# Altium footprint library 2N3904TAR.PcbLib: 6 footprints
Each footprint in its own frame and in the unit in brackets; x right, y up, seen from the top. Pads: shape width x height; smd on the part's side, far side on the other; paste and mask are expansions set on the pad; w line width, h text height; cw(c..) or ccw(c..) is an arc to the next point about the centre after c.
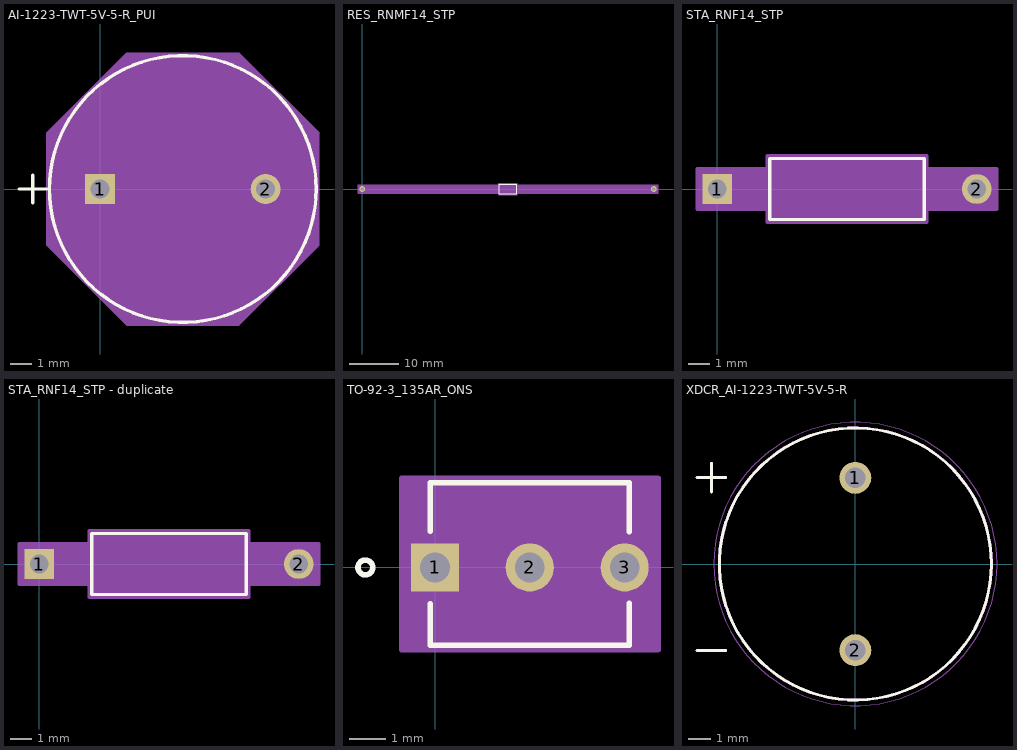
[diagram p0: the footprints below, top view; thin cyan lines are the x and y axes]

## AI-1223-TWT-5V-5-R_PUI [mil]
pads (2):
  rect 54x54 / inner round 60 / far side rect 54x54 hole 34 paste-99999 mask+0: 1(0,0)
  round 54 / inner round 60 / far side round 54 hole 34 paste-99999 mask+0: 2(299.21,0)
Top Overlay:
  circle w6: c149.61,0 r241
  lines w6: -146.39,0 -96.39,0 ; -121.39,-25 -121.39,25
Mechanical 13:
  circle w0: c149.61,0 r236
  lines w1: -146.39,0 -96.39,0 ; -121.39,-25 -121.39,25
Mechanical 15:
  region: -96.39,101.29 48.31,246 250.9,246 395.61,101.29 395.61,-101.29 250.9,-246 48.31,-246 -96.39,-101.29
  lines w1: -96.39,-101.29 48.31,-246 250.9,-246 395.61,-101.29 395.61,101.29 250.9,246 48.31,246 -96.39,101.29 -96.39,-101.29
3D body "AI-1223-TWT-5V-5-R_PUI.step": height 374.61, standoff -172.01, extent -86.38,-235.88 387,235.88

## RES_RNMF14_STP [mil]
pads (2):
  round 47 / inner round 60 / far side round 47 hole 27 paste-99999 mask+0: 1(0,0) 2(2334,0)
Top Overlay:
  lines w6: 1097,-40 1237,-40 1237,40 1097,40 1097,-40
Mechanical 13:
  lines w1: 0,0 1102,0 ; 1232,0 2334,0 ; 1102,-35 1232,-35 1232,35 1102,35 1102,-35
Mechanical 15:
  region: 1092,-33.5 -33.5,-33.5 -33.5,33.5 1092,33.5 1092,45 1242,45 1242,33.5 2367.5,33.5 2367.5,-33.5 1242,-33.5 1242,-45 1092,-45
  region: 1232,-35 1102,-35 1102,35 1232,35
  lines w6: -33.5,-33.5 -33.5,33.5 1092,33.5 1092,45 1242,45 1242,33.5 2367.5,33.5 2367.5,-33.5 1242,-33.5 1242,-45 1092,-45 1092,-33.5 -33.5,-33.5
3D body "RES_RNMF14_STP.step": height 70, standoff -100, extent -8.5,-34.74 2342.52,34.74

## STA_RNF14_STP [mil]
pads (2):
  rect 55x55 / inner round 60 / far side rect 55x55 hole 35 paste-99999 mask+0: 1(0,0)
  round 55 / inner round 60 / far side round 55 hole 35 paste-99999 mask+0: 2(480,0)
Top Overlay:
  lines w6: 97,-56.5 97,56.5 383,56.5 383,-56.5 97,-56.5
Mechanical 13:
  lines w1: 0,0 102,0 ; 378,0 480,0 ; 102,-51.5 102,51.5 378,51.5 378,-51.5 102,-51.5
Mechanical 15:
  region: 92,-37.5 -37.5,-37.5 -37.5,37.5 92,37.5 92,61.5 388,61.5 388,37.5 517.5,37.5 517.5,-37.5 388,-37.5 388,-61.5 92,-61.5
  lines w6: -37.5,-37.5 92,-37.5 92,-61.5 388,-61.5 388,-37.5 517.5,-37.5 517.5,37.5 388,37.5 388,61.5 92,61.5 92,37.5 -37.5,37.5 -37.5,-37.5
3D body "STA_RNF14_STP.step": height 103, standoff -110, extent -12.48,-51.12 492.52,51.12

## STA_RNF14_STP - duplicate [mil]
pads (2):
  rect 55x55 / inner round 60 / far side rect 55x55 hole 35 paste-99999 mask+0: 1(0,0)
  round 55 / inner round 60 / far side round 55 hole 35 paste-99999 mask+0: 2(480,0)
Top Overlay:
  lines w6: 97,-56.5 97,56.5 383,56.5 383,-56.5 97,-56.5
Mechanical 13:
  lines w1: 0,0 102,0 ; 378,0 480,0 ; 102,-51.5 102,51.5 378,51.5 378,-51.5 102,-51.5
Mechanical 15:
  region: 92,-37.5 -37.5,-37.5 -37.5,37.5 92,37.5 92,61.5 388,61.5 388,37.5 517.5,37.5 517.5,-37.5 388,-37.5 388,-61.5 92,-61.5
  lines w6: -37.5,-37.5 92,-37.5 92,-61.5 388,-61.5 388,-37.5 517.5,-37.5 517.5,37.5 388,37.5 388,61.5 92,61.5 92,37.5 -37.5,37.5 -37.5,-37.5
3D body "STA_RNF14_STP.step": height 103, standoff -110, extent -12.48,-51.12 492.52,51.12

## TO-92-3_135AR_ONS [mil]
pads (3):
  rect 52x52 / inner round 60 / far side rect 52x52 hole 32 paste-99999 mask+0: 1(0,0)
  round 52 / inner round 60 / far side round 52 hole 32 paste-99999 mask+0: 2(102.36,0) 3(204.72,0)
Top Overlay:
  circle w6: c-75.14,0 r8
  lines w6: -5.14,-39.1 -5.14,-83.78 209.86,-83.78 209.86,-38.76 ; -5.14,39.1 -5.14,91.22 209.86,91.22 209.86,38.76
Mechanical 13:
  circle w0: c9.86,-68.78 r8
  lines w1: -0.14,-78.78 204.86,-78.78 204.86,86.22 -0.14,86.22 -0.14,-78.78
Mechanical 15:
  region: 240.72,96.22 -36,96.22 -36,-88.78 240.72,-88.78
  lines w6: -36,-88.78 -36,96.22 240.72,96.22 240.72,-88.78 -36,-88.78

## XDCR_AI-1223-TWT-5V-5-R [mm]
pads (2):
  round 1.408 hole 0.9: 1(0,3.8) 2(0,-3.8)
Top Overlay:
  circle w0.127: c0,0 r6
  lines w0.127: -6.985,-3.81 -5.715,-3.81 ; -6.985,3.81 -5.715,3.81 ; -6.35,3.175 -6.35,4.445
Mechanical 13:
  circle w0.127: c0,0 r6
  lines w0.127: -6.985,-3.81 -5.715,-3.81 ; -6.985,3.81 -5.715,3.81 ; -6.35,3.175 -6.35,4.445
Mechanical 15:
  circle w0.05: c0,0 r6.25
3D body "step_temp.STEP": height 9.56, standoff -5.99, extent -6.028,-5.947 5.969,7.493